# EAGLE library part LED-DUAL7SEG (library LITTLEBITS140826)
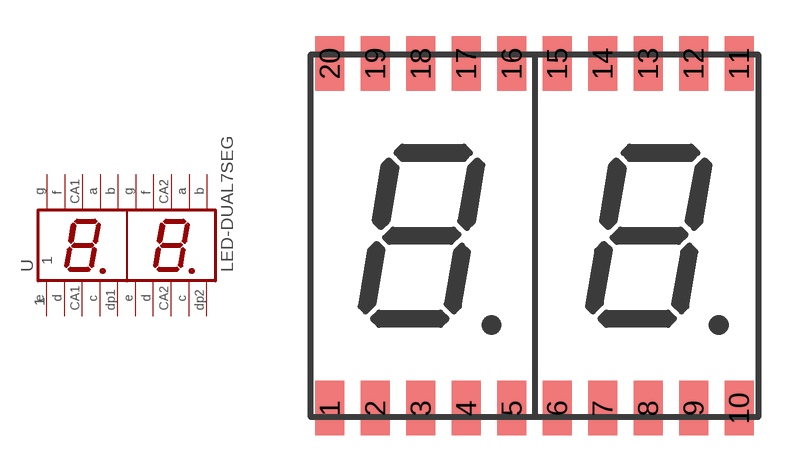
[diagram p34: symbol with the pads of LED-DUAL7SEG-SM; footprint LED-DUAL7SEG-SM]

Designator prefix -

## LED-DUAL7SEG10.16MMDIGITS  [LED-DUAL7SEG-SM]
1  1  pas
2  2  pas
3  3  pas
4  4  pas
5  5  pas
6  6  pas
7  7  pas
8  8  pas
9  9  pas
10  10  pas
11  11  pas
12  12  pas
13  13  pas
14  14  pas
15  15  pas
16  16  pas
17  17  pas
18  18  pas
19  19  pas
20  20  pas

## Footprint LED-DUAL7SEG-SM (pad centres in mm)
smd 1.2 x 2.25: 1 -8.46,-7.125; 2 -6.58,-7.125; 3 -4.7,-7.125; 4 -2.82,-7.125; 5 -0.94,-7.125; 6 0.94,-7.125; 7 2.82,-7.125; 8 4.7,-7.125; 9 6.58,-7.125; 10 8.46,-7.125; 11 8.46,7.125; 12 6.58,7.125; 13 4.7,7.125; 14 2.82,7.125; 15 0.94,7.125; 16 -0.94,7.125; 17 -2.82,7.125; 18 -4.7,7.125; 19 -6.58,7.125; 20 -8.46,7.125